# Altium footprint library LEDs.PcbLib: 4 footprints
Each footprint in its own frame and in the unit in brackets; x right, y up, seen from the top. Pads: shape width x height; smd on the part's side, far side on the other; paste and mask are expansions set on the pad; w line width, h text height; cw(c..) or ccw(c..) is an arc to the next point about the centre after c.
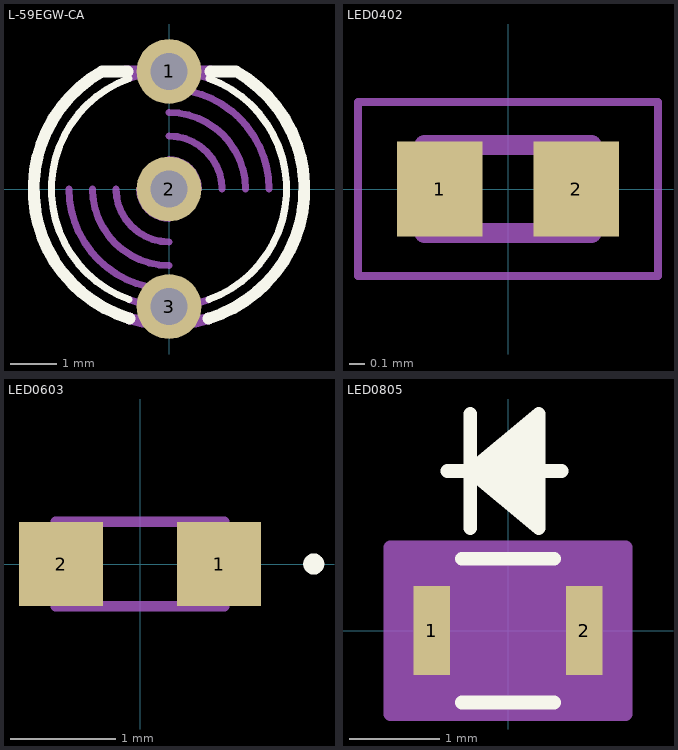
[diagram p0: the footprints below, top view; thin cyan lines are the x and y axes]

## L-59EGW-CA [mm]
pads (3):
  round 1.4 hole 0.8 mask+0.102: 1(0,2.54) 2(0,0) 3(0,-2.54)
Top Overlay:
  lines w0.152: -0.868,-2.386 cw(c0,0) -0.868,2.386 ; 0.868,-2.386 ccw(c0,0) 0.868,2.386
  lines w0.254: -1.462,2.532 ccw(c0,0) -0.855,-2.796 ; -1.448,2.54 -0.889,2.54 ; 0.855,-2.797 ccw(c0,0) 1.462,2.533 ; 0.889,2.54 1.448,2.54
Mechanical 13:
  lines w0.152: -2.159,0 ccw(c0,0) 0,-2.159 ; -1.651,0 ccw(c0,0) 0,-1.651 ; -1.143,0 ccw(c0,0) 0,-1.143 ; -0.868,-2.386 ccw(c0,0) 0.868,-2.386 ; -0.868,2.386 cw(c0,0) 0.868,2.386 ; -0.635,0 ccw(c0,0) 0,-0.635 ; 0,0.635 cw(c0,0) 0.635,0 ; 0,1.143 cw(c0,0) 1.143,0 ; 0,1.651 cw(c0,0) 1.651,0 ; 0,2.159 cw(c0,0) 2.159,0
  lines w0.254: -0.94,2.54 0.889,2.54 ; -0.855,-2.797 ccw(c0,0) 0.855,-2.797
3D body "step_temp.STEP": height 11.35, standoff -21.75, extent -2.947,-2.89 2.947,2.95

## LED0402 [mm]
pads (2):
  rect 0.54x0.6 smd: 1(-0.432,0) 2(0.432,0)
Mechanical 13:
  lines w0.127: -0.53,-0.28 -0.53,0.28 0.53,0.28 0.53,-0.28 -0.53,-0.28
Mechanical 15:
  lines w0.05: -0.95,-0.55 -0.95,0.55 0.95,0.55 0.95,-0.55 -0.95,-0.55
3D body: height 0.35, standoff 0, extent -0.575,-0.25 -0.45,0.25
3D body: height 0.35, standoff 0, extent 0.45,-0.25 0.575,0.25
3D body: height 0.35, standoff 0, extent -0.45,-0.25 0.45,0.25

## LED0603 [mm]
pads (2):
  rect 0.8x0.8 smd: 1(0.75,0) 2(-0.75,0)
Top Overlay:
  lines w0.1: 1.6,0 ccw(c1.65,0) 1.7,0 ccw(c1.65,0) 1.6,0
Mechanical 15:
  lines w0.1: -0.8,-0.4 -0.8,0.4 0.8,0.4 0.8,-0.4 -0.8,-0.4
3D body "HSMA-C191.stp": height 0.8, standoff 0, extent -0.8,-0.4 0.8,0.4

## LED0805 [mil]
pads (2):
  rect 16x39 smd paste+0 mask+0: 1(-33.5,0) 2(33.5,0)
Top Overlay:
  lines w6: -26.5,70 23.5,70 ; -20.25,-31.5 20.25,-31.5 ; -20.25,31.5 20.25,31.5 ; -16.5,45 -16.5,95 ; 13.5,50 -16.5,70 ; 13.5,55 -16.5,70 ; 13.5,60 -16.5,70 ; 13.5,65 -16.5,70 ; 13.5,75 -16.5,70 ; 13.5,80 -16.5,70 ; 13.5,85 -16.5,70 ; 13.5,90 -16.5,70 ; -16.5,70 13.5,45 13.5,95 -16.5,70
Mechanical 13:
  lines w1: -26.5,70 23.5,70 ; -16.5,45 -16.5,95 ; 13.5,50 -16.5,70 ; 13.5,55 -16.5,70 ; 13.5,60 -16.5,70 ; 13.5,65 -16.5,70 ; 13.5,75 -16.5,70 ; 13.5,80 -16.5,70 ; 13.5,85 -16.5,70 ; 13.5,90 -16.5,70 ; -16.5,70 13.5,45 13.5,95 -16.5,70 ; -41.5,-26.5 -41.5,26.5 41.5,26.5 41.5,-26.5 -41.5,-26.5
Mechanical 15:
  region: -51.5,-29.5 -51.5,29.5 -51.5,36.5 51.5,36.5 51.5,29.5 51.5,-29.5 51.5,-36.5 -51.5,-36.5
  lines w6: -51.5,-36.5 51.5,-36.5 51.5,-29.5 51.5,29.5 51.5,36.5 -51.5,36.5 -51.5,29.5 -51.5,-29.5 -51.5,-36.5
3D body "LED_GS75000_WRE.step": height 32.01, standoff 0, extent -41.5,-26.61 41.5,26.61